# EAGLE library part AMG88XX (library GueLogics)
Grid Eye, Infrared Array Sensor
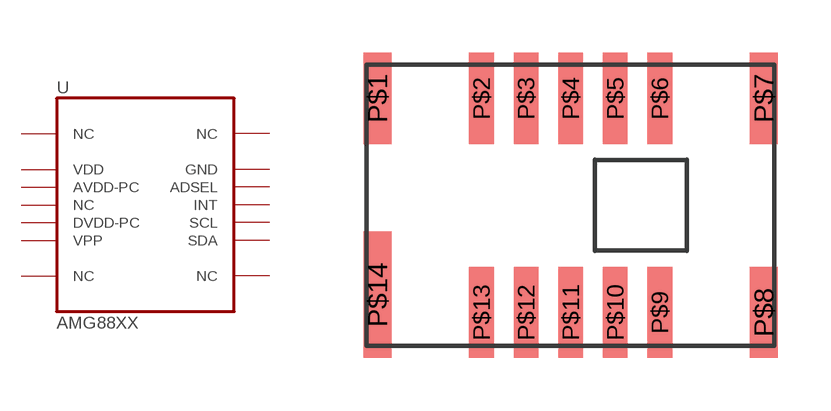
[diagram p2: symbol with the pads of AMG88XX; footprint AMG88XX]

Designator prefix -

## AMG88XX  [AMG88XX]
P$1  NC  nc
P$2  SDA
P$3  SCL  in
P$4  INT  in
P$5  ADSEL  in
P$6  GND  pwr
P$7  NC  nc
P$8  NC
P$9  VDD  pwr
P$10  AVDD-PC
P$11  NC
P$12  DVDD-PC
P$13  VPP
P$14  NC

## Footprint AMG88XX (pad centres in mm)
smd 0.8 x 2.6: P$1 -5.5,3.05; P$7 5.5,3.05; P$8 5.5,-3.05
smd 0.7 x 2.6: P$2 -2.54,3.05; P$3 -1.27,3.05; P$4 0,3.05; P$5 1.27,3.05; P$6 2.54,3.05; P$9 2.54,-3.05; P$10 1.27,-3.05; P$11 0,-3.05; P$12 -1.27,-3.05; P$13 -2.54,-3.05
smd 0.8 x 3.6: P$14 -5.5,-2.55